# Altium integrated library TI Power Management Power Modules.IntLib: 831 symbols (part 1 of 44)
Pins are listed as number, name and electrical type; pins without a type are passive.

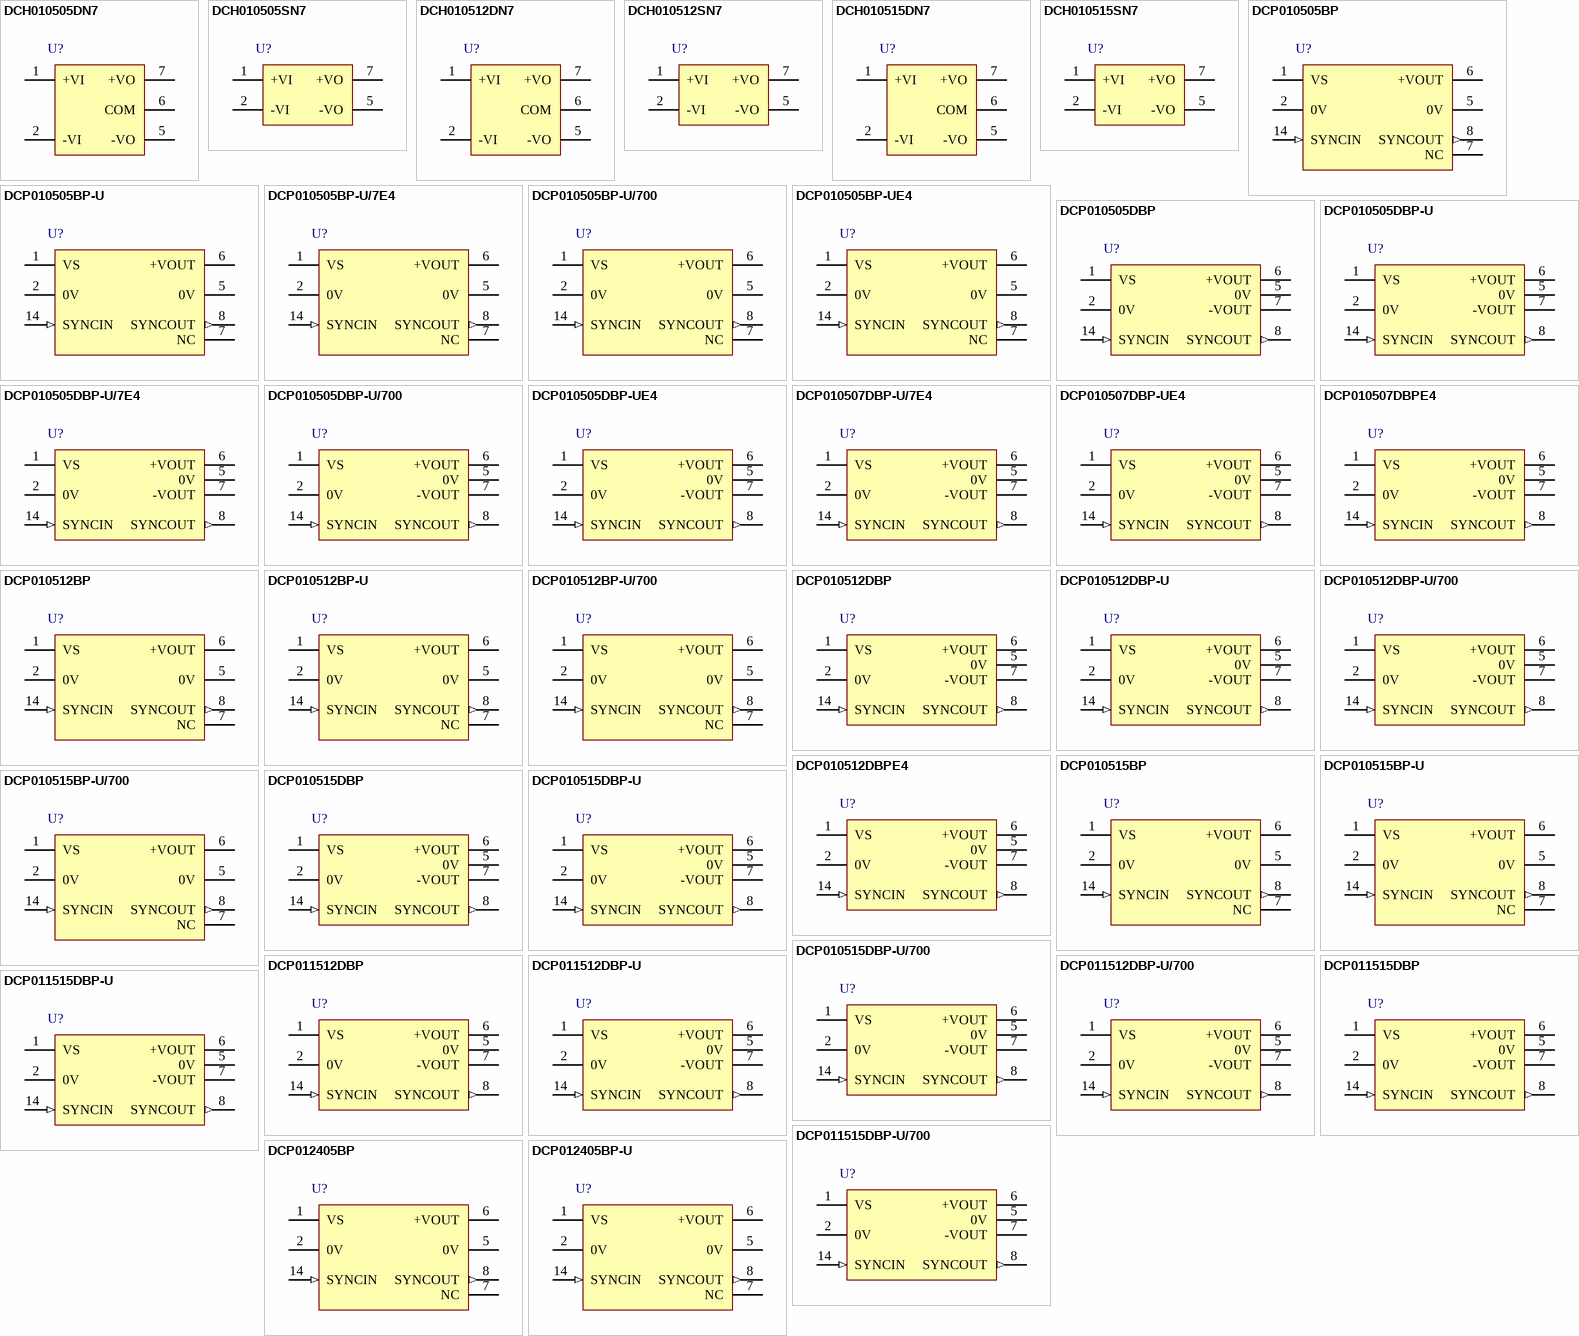
[diagram p0: symbols DCH010505DN7 to DCP012405BP-U]

## DCH010505DN7
designator U?
Miniature, 1 W, 3 kVDC Isolated DC-DC Converter, -40 to 85 degC, 5-pin Module (EDJ5), Pb-Free (RoHS); Manufacturer: Texas Instruments; PartNumber: DCH010505DN7; Iout(Max)(A): 0.1; Regulated Outputs(#): 2; SubFamily: 1 W & 2 W Miniature; Vin(Max)(V): 5.5; Vin(Min)(V): 4.5; DatasheetVersion: SBVS073H; PackageVersion: 4207975-3/C; PackageReference: EDJ5; PackageDescription: 5-Pin Plastic Special Shape, Body 10.15 x 19.56 mm; Supplier 1: Digi-Key; Supplier Part Number 1: 296-20637-ND; Supplier 2: Farnell; Supplier Part Number 2: 1754259; Supplier 3: Newark; Supplier Part Number 3: 02M9394; Supplier 4: Mouser; Supplier Part Number 4: 595-DCH010505DN7; Eco-Plan: Pb-Free (RoHS); Vout(Max)(V): 5.5; Vout(Min)(V): 4.5; Mounting Technology: Through Hole; ComponentLink1Description: Manufacturer URL; ComponentLink1URL: http://www.ti.com/; ComponentLink2Description: Datasheet; ComponentLink2URL: http://www.ti.com/general/docs/lit/getliterature.tsp?genericPartNumber=DCH010505D&fileType=pdf; ComponentLink3Description: Package Specification; ComponentLink3URL: http://www.ti.com/lit/ml/mpds294b/mpds294b.pdf; ComponentLink4Description: URL Link1; ComponentLink4URL: Samples URL:http://www.ti.com/product/tps55010#samples
footprint TI-EDJ5_V (Module, 5-Leads, Body 19.56x7.62mm)
pins: 1 +VI (power) "Voltage input", 2 -VI (power) "Input side common", 5 -VO (power) "-Voltage out", 6 COM (power) "Output side common", 7 +VO (power) "+Voltage out"

## DCH010505SN7
designator U?
Miniature, 1 W, 3 kVDC Isolated DC-DC Converter, -40 to 85 degC, 4-pin Module (EDJ4), Pb-Free (RoHS); Manufacturer: Texas Instruments; PartNumber: DCH010505SN7; Iout(Max)(A): 0.2; Regulated Outputs(#): 1; SubFamily: 1 W & 2 W Miniature; Vin(Max)(V): 5.5; Vin(Min)(V): 4.5; DatasheetVersion: SBVS073H; PackageVersion: 4207975-2/C; PackageReference: EDJ4; PackageDescription: 4-Pin Plastic Special Shape, Body 10.15 x 19.56 mm; Supplier 1: Digi-Key; Supplier Part Number 1: 296-20638-ND; Supplier 2: Farnell; Supplier Part Number 2: 1754260; Supplier 3: Newark; Supplier Part Number 3: 28M9234; Supplier 4: Mouser; Supplier Part Number 4: 595-DCH010505SN7; Eco-Plan: Pb-Free (RoHS); Vout(Max)(V): 5.5; Vout(Min)(V): 4.5; Mounting Technology: Through Hole; ComponentLink1Description: Manufacturer URL; ComponentLink1URL: http://www.ti.com/; ComponentLink2Description: Datasheet; ComponentLink2URL: http://www.ti.com/general/docs/lit/getliterature.tsp?genericPartNumber=DCH010505S&fileType=pdf; ComponentLink3Description: Package Specification; ComponentLink3URL: http://www.ti.com/lit/ml/mpds293b/mpds293b.pdf; ComponentLink4Description: URL Link1; ComponentLink4URL: Samples URL:http://www.ti.com/product/tps55010#samples
footprint TI-EDJ4_V (Module, 4-Leads, Body 19.56x7.62mm)
pins: 1 +VI (power) "Voltage input", 2 -VI (power) "Input side common", 5 -VO (power) "-Voltage out", 7 +VO (power) "+Voltage out"

## DCH010512DN7
designator U?
Miniature, 1 W, 3 kVDC Isolated DC-DC Converter, -40 to 85 degC, 5-pin Module (EDJ5), Pb-Free (RoHS); Manufacturer: Texas Instruments; PartNumber: DCH010512DN7; Iout(Max)(A): 0.042; Regulated Outputs(#): 2; SubFamily: 1 W & 2 W Miniature; Vin(Max)(V): 5.5; Vin(Min)(V): 4.5; Vout(Max)(V): 12.6; Vout(Min)(V): 11.4; DatasheetVersion: SBVS073H; PackageVersion: 4207975-3/C; PackageReference: EDJ5; PackageDescription: 5-Pin Plastic Special Shape, Body 10.15 x 19.56 mm; Supplier 1: Digi-Key; Supplier Part Number 1: 296-20639-ND; Supplier 2: Farnell; Supplier Part Number 2: 1754814; Supplier 3: Newark; Supplier Part Number 3: 34R7446; Supplier 4: Newark; Supplier Part Number 4: 28M9235; Supplier 5: Mouser; Supplier Part Number 5: 595-DCH010512DN7; Eco-Plan: Pb-Free (RoHS); Mounting Technology: Through Hole; ComponentLink1Description: Manufacturer URL; ComponentLink1URL: http://www.ti.com/; ComponentLink2Description: Datasheet; ComponentLink2URL: http://www.ti.com/general/docs/lit/getliterature.tsp?genericPartNumber=DCH010512D&fileType=pdf; ComponentLink3Description: Package Specification; ComponentLink3URL: http://www.ti.com/lit/ml/mpds294b/mpds294b.pdf; ComponentLink4Description: URL Link1; ComponentLink4URL: Samples URL:http://www.ti.com/product/dch010512d
footprint TI-EDJ5_V (Module, 5-Leads, Body 19.56x7.62mm)
pins: 1 +VI (power) "Voltage input", 2 -VI (power) "Input side common", 5 -VO (power) "-Voltage out", 6 COM (power) "Output side common", 7 +VO (power) "+Voltage out"

## DCH010512SN7
designator U?
Miniature, 1 W, 3 kVDC Isolated DC-DC Converter, -40 to 85 degC, 4-pin Module (EDJ4), Pb-Free (RoHS); Manufacturer: Texas Instruments; PartNumber: DCH010512SN7; Iout(Max)(A): 0.083; Regulated Outputs(#): 1; SubFamily: 1 W & 2 W Miniature; Vin(Max)(V): 5.5; Vin(Min)(V): 4.5; Vout(Max)(V): 12.6; Vout(Min)(V): 11.4; DatasheetVersion: SBVS073H; PackageVersion: 4207975-2/C; PackageReference: EDJ4; PackageDescription: 4-Pin Plastic Special Shape, Body 10.15 x 19.56 mm; Supplier 1: Digi-Key; Supplier Part Number 1: 296-20640-ND; Supplier 2: Newark; Supplier Part Number 2: 28M9236; Supplier 3: Mouser; Supplier Part Number 3: 595-DCH010512SN7; Eco-Plan: Pb-Free (RoHS); Mounting Technology: Through Hole; ComponentLink1Description: Manufacturer URL; ComponentLink1URL: http://www.ti.com/; ComponentLink2Description: Datasheet; ComponentLink2URL: http://www.ti.com/general/docs/lit/getliterature.tsp?genericPartNumber=DCH010512S&fileType=pdf; ComponentLink3Description: Package Specification; ComponentLink3URL: http://www.ti.com/lit/ml/mpds293b/mpds293b.pdf; ComponentLink4Description: URL Link1; ComponentLink4URL: Samples URL:http://www.ti.com/product/dch010512s
footprint TI-EDJ4_V (Module, 4-Leads, Body 19.56x7.62mm)
pins: 1 +VI (power) "Voltage input", 2 -VI (power) "Input side common", 5 -VO (power) "-Voltage out", 7 +VO (power) "+Voltage out"

## DCH010515DN7
designator U?
Miniature, 1 W, 3 kVDC Isolated DC-DC Converter, -40 to 85 degC, 5-pin Module (EDJ5), Pb-Free (RoHS); Manufacturer: Texas Instruments; PartNumber: DCH010515DN7; Iout(Max)(A): 0.033; Regulated Outputs(#): 2; SubFamily: 1 W & 2 W Miniature; Vin(Max)(V): 5.5; Vin(Min)(V): 4.5; Vout(Max)(V): 15.75; Vout(Min)(V): 14.25; DatasheetVersion: SBVS073H; PackageVersion: 4207975-3/C; PackageReference: EDJ5; PackageDescription: 5-Pin Plastic Special Shape, Body 10.15 x 19.56 mm; Supplier 1: Digi-Key; Supplier Part Number 1: 296-20641-ND; Supplier 2: Newark; Supplier Part Number 2: 34M5484; Supplier 3: Mouser; Supplier Part Number 3: 595-DCH010515DN7; Eco-Plan: Pb-Free (RoHS); Mounting Technology: Through Hole; ComponentLink1Description: Manufacturer URL; ComponentLink1URL: http://www.ti.com/; ComponentLink2Description: Datasheet; ComponentLink2URL: http://www.ti.com/general/docs/lit/getliterature.tsp?genericPartNumber=DCH010515D&fileType=pdf; ComponentLink3Description: Package Specification; ComponentLink3URL: http://www.ti.com/lit/ml/mpds294b/mpds294b.pdf; ComponentLink4Description: URL Link1; ComponentLink4URL: Samples URL:http://www.ti.com/product/dch010515d
footprint TI-EDJ5_V (Module, 5-Leads, Body 19.56x7.62mm)
pins: 1 +VI (power) "Voltage input", 2 -VI (power) "Input side common", 5 -VO (power) "-Voltage out", 6 COM (power) "Output side common", 7 +VO (power) "+Voltage out"

## DCH010515SN7
designator U?
Miniature, 1 W, 3 kVDC Isolated DC-DC Converter, -40 to 85 degC, 4-pin Module (EDJ4), Pb-Free (RoHS); Manufacturer: Texas Instruments; PartNumber: DCH010515SN7; Iout(Max)(A): 0.067; Regulated Outputs(#): 1; SubFamily: 1 W & 2 W Miniature; Vin(Max)(V): 5.5; Vin(Min)(V): 4.5; Vout(Max)(V): 15.75; Vout(Min)(V): 14.25; DatasheetVersion: SBVS073H; PackageVersion: 4207975-2/C; PackageReference: EDJ4; PackageDescription: 4-Pin Plastic Special Shape, Body 10.15 x 19.56 mm; Supplier 1: Digi-Key; Supplier Part Number 1: 296-20642-ND; Supplier 2: Farnell; Supplier Part Number 2: 1564914; Supplier 3: Newark; Supplier Part Number 3: 02M9399; Supplier 4: Newark; Supplier Part Number 4: 96M9953; Supplier 5: Mouser; Supplier Part Number 5: 595-DCH010515SN7; Eco-Plan: Pb-Free (RoHS); Mounting Technology: Through Hole; ComponentLink1Description: Manufacturer URL; ComponentLink1URL: http://www.ti.com/; ComponentLink2Description: Datasheet; ComponentLink2URL: http://www.ti.com/general/docs/lit/getliterature.tsp?genericPartNumber=DCH010515S&fileType=pdf; ComponentLink3Description: Package Specification; ComponentLink3URL: http://www.ti.com/lit/ml/mpds293b/mpds293b.pdf; ComponentLink4Description: URL Link1; ComponentLink4URL: Samples URL:http://www.ti.com/product/dch010515s
footprint TI-EDJ4_V (Module, 4-Leads, Body 19.56x7.62mm)
pins: 1 +VI (power) "Voltage input", 2 -VI (power) "Input side common", 5 -VO (power) "-Voltage out", 7 +VO (power) "+Voltage out"

## DCP010505BP
designator U?
Miniature, 1 W Isolated Unregulated DC-DC Converter, -40 to 100 degC, 7-pin DIP (NVA7), Pb-Free (RoHS); Manufacturer: Texas Instruments; PartNumber: DCP010505BP; Iout(Max)(A): 0.2; Regulated Outputs(#): 1; SubFamily: 1 W & 2 W Miniature; Vin(Max)(V): 5.5; Vin(Min)(V): 4.5; Vout(Max)(V): 5.25; Vout(Min)(V): 4.75; DatasheetVersion: SBVS012E; PackageVersion: 4202489/B; PackageReference: NVA7; PackageDescription: 7-Pin Plastic In-Line, Body 6.61 x 19.18 mm; Supplier 1: Digi-Key; Supplier Part Number 1: DCP010505BP-ND; Supplier 2: Farnell; Supplier Part Number 2: 1204767; Supplier 3: Newark; Supplier Part Number 3: 74K3717; Supplier 4: Mouser; Supplier Part Number 4: 595-DCP010505BP; Eco-Plan: Pb-Free (RoHS); Mounting Technology: Through Hole; Code_JEDEC: MS-001-AA; ComponentLink1Description: Manufacturer URL; ComponentLink1URL: http://www.ti.com/; ComponentLink2Description: Datasheet; ComponentLink2URL: http://www.ti.com/general/docs/lit/getliterature.tsp?genericPartNumber=DCP010505B&fileType=pdf; ComponentLink3Description: Package Specification; ComponentLink3URL: http://www.ti.com/lit/ml/mpdi058a/mpdi058a.pdf; ComponentLink4Description: URL Link1; ComponentLink4URL: Samples URL:http://www.ti.com/product/dcp010505b#samples
footprint TI-NVA7 (DIP, 7-Leads, Body 19.18x6.605mm, Pitch 2.54mm)
pins: 1 VS (power) "Voltage input", 2 0V (power) "Input side common", 5 0V (power) "Output side common", 6 +VOUT (power) "+Voltage Out", 7 NC "Not connected", 8 SYNCOUT (out) "Unrectified transformer output", 14 SYNCIN (in) "Synchronization pin"

## DCP010505BP-U
designator U?
Miniature, 1 W Isolated Unregulated DC-DC Converter, -40 to 100 degC, 7-pin SOP (DUA7), Pb-Free (RoHS); Manufacturer: Texas Instruments; PartNumber: DCP010505BP-U; Iout(Max)(A): 0.2; Regulated Outputs(#): 1; SubFamily: 1 W & 2 W Miniature; Vin(Max)(V): 5.5; Vin(Min)(V): 4.5; Vout(Max)(V): 5.25; Vout(Min)(V): 4.75; DatasheetVersion: SBVS012E; PackageVersion: 4202490/B; PackageReference: DUA7; PackageDescription: 7-Pin Plastic Small Outline, Body 6.61 x 19.18 mm; Supplier 1: Digi-Key; Supplier Part Number 1: DCP010505BP-U-ND; Supplier 2: Newark; Supplier Part Number 2: 35C1673; Supplier 3: Mouser; Supplier Part Number 3: 595-DCP010505BP-U; Eco-Plan: Pb-Free (RoHS); Mounting Technology: Surface Mount; ComponentLink1Description: Manufacturer URL; ComponentLink1URL: http://www.ti.com/; ComponentLink2Description: Datasheet; ComponentLink2URL: http://www.ti.com/general/docs/lit/getliterature.tsp?genericPartNumber=DCP010505B&fileType=pdf; ComponentLink3Description: Package Specification; ComponentLink3URL: http://www.ti.com/lit/ml/mpds097a/mpds097a.pdf; ComponentLink4Description: URL Link1; ComponentLink4URL: Samples URL:http://www.ti.com/product/dcp010505b#samples
footprint TI-DUA7_N (SOP, 7-Leads, Body 19.18x6.605mm, Pitch 2.54mm, IPC Medium Density)
footprint TI-DUA7_L (SOP, 7-Leads, Body 19.18x6.605mm, Pitch 2.54mm, IPC High Density)
footprint TI-DUA7_M (SOP, 7-Leads, Body 19.18x6.605mm, Pitch 2.54mm, IPC Low Density)
pins: 1 VS (power) "Voltage input", 2 0V (power) "Input side common", 5 0V (power) "Output side common", 6 +VOUT (power) "+Voltage Out", 7 NC "Not connected", 8 SYNCOUT (out) "Unrectified transformer output", 14 SYNCIN (in) "Synchronization pin"

## DCP010505BP-U/7E4
designator U?
Miniature, 1 W Isolated Unregulated DC-DC Converter, -40 to 100 degC, 7-pin SOP (DUA7), Pb-Free (RoHS); Manufacturer: Texas Instruments; PartNumber: DCP010505BP-U/7E4; Iout(Max)(A): 0.2; Regulated Outputs(#): 1; SubFamily: 1 W & 2 W Miniature; Vin(Max)(V): 5.5; Vin(Min)(V): 4.5; Vout(Max)(V): 5.25; Vout(Min)(V): 4.75; DatasheetVersion: SBVS012E; PackageVersion: 4202490/B; PackageReference: DUA7; PackageDescription: 7-Pin Plastic Small Outline, Body 6.61 x 19.18 mm; Supplier 1: Digi-Key; Supplier Part Number 1: DCP010505BP-U/7E4-ND; Supplier 2: Newark; Supplier Part Number 2: 71K2885; Supplier 3: Mouser; Supplier Part Number 3: 595-DCP010505BPU/7E4; Eco-Plan: Pb-Free (RoHS); Mounting Technology: Surface Mount; ComponentLink1Description: Manufacturer URL; ComponentLink1URL: http://www.ti.com/; ComponentLink2Description: Datasheet; ComponentLink2URL: http://www.ti.com/general/docs/lit/getliterature.tsp?genericPartNumber=DCP010505B&fileType=pdf; ComponentLink3Description: Package Specification; ComponentLink3URL: http://www.ti.com/lit/ml/mpds097a/mpds097a.pdf; ComponentLink4Description: URL Link1; ComponentLink4URL: Samples URL:http://www.ti.com/product/dcp010505b#samples
footprint TI-DUA7_N (SOP, 7-Leads, Body 19.18x6.605mm, Pitch 2.54mm, IPC Medium Density)
footprint TI-DUA7_L (SOP, 7-Leads, Body 19.18x6.605mm, Pitch 2.54mm, IPC High Density)
footprint TI-DUA7_M (SOP, 7-Leads, Body 19.18x6.605mm, Pitch 2.54mm, IPC Low Density)
pins: 1 VS (power) "Voltage input", 2 0V (power) "Input side common", 5 0V (power) "Output side common", 6 +VOUT (power) "+Voltage Out", 7 NC "Not connected", 8 SYNCOUT (out) "Unrectified transformer output", 14 SYNCIN (in) "Synchronization pin"

## DCP010505BP-U/700
designator U?
Miniature, 1 W Isolated Unregulated DC-DC Converter, -40 to 100 degC, 7-pin SOP (DUA7), Pb-Free (RoHS); Manufacturer: Texas Instruments; PartNumber: DCP010505BP-U/700; Iout(Max)(A): 0.2; Regulated Outputs(#): 1; SubFamily: 1 W & 2 W Miniature; Vin(Max)(V): 5.5; Vin(Min)(V): 4.5; Vout(Max)(V): 5.25; Vout(Min)(V): 4.75; DatasheetVersion: SBVS012E; PackageVersion: 4202490/B; PackageReference: DUA7; PackageDescription: 7-Pin Plastic Small Outline, Body 6.61 x 19.18 mm; Supplier 1: Digi-Key; Supplier Part Number 1: DCP010505BP-U/700-ND; Supplier 2: Newark; Supplier Part Number 2: 74C9320; Supplier 3: Mouser; Supplier Part Number 3: 595-DCP010505BPU/700; Eco-Plan: Pb-Free (RoHS); Mounting Technology: Surface Mount; ComponentLink1Description: Manufacturer URL; ComponentLink1URL: http://www.ti.com/; ComponentLink2Description: Datasheet; ComponentLink2URL: http://www.ti.com/general/docs/lit/getliterature.tsp?genericPartNumber=DCP010505B&fileType=pdf; ComponentLink3Description: Package Specification; ComponentLink3URL: http://www.ti.com/lit/ml/mpds097a/mpds097a.pdf; ComponentLink4Description: URL Link1; ComponentLink4URL: Samples URL:http://www.ti.com/product/dcp010505b#samples
footprint TI-DUA7_N (SOP, 7-Leads, Body 19.18x6.605mm, Pitch 2.54mm, IPC Medium Density)
footprint TI-DUA7_L (SOP, 7-Leads, Body 19.18x6.605mm, Pitch 2.54mm, IPC High Density)
footprint TI-DUA7_M (SOP, 7-Leads, Body 19.18x6.605mm, Pitch 2.54mm, IPC Low Density)
pins: 1 VS (power) "Voltage input", 2 0V (power) "Input side common", 5 0V (power) "Output side common", 6 +VOUT (power) "+Voltage Out", 7 NC "Not connected", 8 SYNCOUT (out) "Unrectified transformer output", 14 SYNCIN (in) "Synchronization pin"

## DCP010505BP-UE4
designator U?
Miniature, 1 W Isolated Unregulated DC-DC Converter, -40 to 100 degC, 7-pin SOP (DUA7), Pb-Free (RoHS); Manufacturer: Texas Instruments; PartNumber: DCP010505BP-UE4; Iout(Max)(A): 0.2; Regulated Outputs(#): 1; SubFamily: 1 W & 2 W Miniature; Vin(Max)(V): 5.5; Vin(Min)(V): 4.5; Vout(Max)(V): 5.25; Vout(Min)(V): 4.75; DatasheetVersion: SBVS012E; PackageVersion: 4202490/B; PackageReference: DUA7; PackageDescription: 7-Pin Plastic Small Outline, Body 6.61 x 19.18 mm; Supplier 1: Digi-Key; Supplier Part Number 1: DCP010505BP-UE4-ND; Supplier 2: Newark; Supplier Part Number 2: 58K5664; Supplier 3: Mouser; Supplier Part Number 3: 595-DCP010505BP-UE4; Eco-Plan: Pb-Free (RoHS); Mounting Technology: Surface Mount; ComponentLink1Description: Manufacturer URL; ComponentLink1URL: http://www.ti.com/; ComponentLink2Description: Datasheet; ComponentLink2URL: http://www.ti.com/general/docs/lit/getliterature.tsp?genericPartNumber=DCP010505B&fileType=pdf; ComponentLink3Description: Package Specification; ComponentLink3URL: http://www.ti.com/lit/ml/mpds097a/mpds097a.pdf; ComponentLink4Description: URL Link1; ComponentLink4URL: Samples URL:http://www.ti.com/product/tps55010#samples
footprint TI-DUA7_N (SOP, 7-Leads, Body 19.18x6.605mm, Pitch 2.54mm, IPC Medium Density)
footprint TI-DUA7_L (SOP, 7-Leads, Body 19.18x6.605mm, Pitch 2.54mm, IPC High Density)
footprint TI-DUA7_M (SOP, 7-Leads, Body 19.18x6.605mm, Pitch 2.54mm, IPC Low Density)
pins: 1 VS (power) "Voltage input", 2 0V (power) "Input side common", 5 0V (power) "Output side common", 6 +VOUT (power) "+Voltage Out", 7 NC "Not connected", 8 SYNCOUT (out) "Unrectified transformer output", 14 SYNCIN (in) "Synchronization pin"

## DCP010505DBP
designator U?
Miniature, 1 W Isolated Unregulated DC-DC Converter, -40 to 100 degC, 7-pin DIP (NVA7), Pb-Free (RoHS); Manufacturer: Texas Instruments; PartNumber: DCP010505DBP; Iout(Max)(A): 0.1; Regulated Outputs(#): 2; SubFamily: 1 W & 2 W Miniature; Vin(Max)(V): 5.5; Vin(Min)(V): 4.5; Vout(Max)(V): 5.75; Vout(Min)(V): 4.25; DatasheetVersion: SBVS012E; PackageVersion: 4202489/B; PackageReference: NVA7; PackageDescription: 7-Pin Plastic In-Line, Body 6.61 x 19.18 mm; Supplier 1: Digi-Key; Supplier Part Number 1: DCP010505DBP-ND; Supplier 2: Farnell; Supplier Part Number 2: 1206889; Supplier 3: Newark; Supplier Part Number 3: 74K3718; Supplier 4: Mouser; Supplier Part Number 4: 595-DCP010505DBP; Eco-Plan: Pb-Free (RoHS); Mounting Technology: Through Hole; Code_JEDEC: MS-001-AA; ComponentLink1Description: Manufacturer URL; ComponentLink1URL: http://www.ti.com/; ComponentLink2Description: Datasheet; ComponentLink2URL: http://www.ti.com/general/docs/lit/getliterature.tsp?genericPartNumber=DCP010505DB&fileType=pdf; ComponentLink3Description: Package Specification; ComponentLink3URL: http://www.ti.com/lit/ml/mpdi058a/mpdi058a.pdf; ComponentLink4Description: URL Link1; ComponentLink4URL: Samples URL:http://www.ti.com/product/dcp010505db#samples
footprint TI-NVA7 (DIP, 7-Leads, Body 19.18x6.605mm, Pitch 2.54mm)
pins: 1 VS (power) "Voltage input", 2 0V (power) "Input side common", 5 0V (power) "Output side common", 6 +VOUT (power) "+Voltage out", 7 -VOUT (power) "-Voltage out", 8 SYNCOUT (out) "Unrectified transformer output", 14 SYNCIN (in) "Synchronization pin"

## DCP010505DBP-U
designator U?
Miniature, 1 W Isolated Unregulated DC-DC Converter, -40 to 100 degC, 7-pin SOP (DUA7), Pb-Free (RoHS); Manufacturer: Texas Instruments; PartNumber: DCP010505DBP-U; Iout(Max)(A): 0.1; Regulated Outputs(#): 2; SubFamily: 1 W & 2 W Miniature; Vin(Max)(V): 5.5; Vin(Min)(V): 4.5; Vout(Max)(V): 5.75; Vout(Min)(V): 4.25; DatasheetVersion: SBVS012E; PackageVersion: 4202490/B; PackageReference: DUA7; PackageDescription: 7-Pin Plastic Small Outline, Body 6.61 x 19.18 mm; Supplier 1: Digi-Key; Supplier Part Number 1: DCP010505DBP-U-ND; Supplier 2: Newark; Supplier Part Number 2: 74C9321; Supplier 3: Mouser; Supplier Part Number 3: 595-DCP010505DBP-U; Eco-Plan: Pb-Free (RoHS); Mounting Technology: Surface Mount; ComponentLink1Description: Manufacturer URL; ComponentLink1URL: http://www.ti.com/; ComponentLink2Description: Datasheet; ComponentLink2URL: http://www.ti.com/general/docs/lit/getliterature.tsp?genericPartNumber=DCP010505DB&fileType=pdf; ComponentLink3Description: Package Specification; ComponentLink3URL: http://www.ti.com/lit/ml/mpds097a/mpds097a.pdf; ComponentLink4Description: URL Link1; ComponentLink4URL: Samples URL:http://www.ti.com/product/dcp010505db#samples
footprint TI-DUA7_N (SOP, 7-Leads, Body 19.18x6.605mm, Pitch 2.54mm, IPC Medium Density)
footprint TI-DUA7_L (SOP, 7-Leads, Body 19.18x6.605mm, Pitch 2.54mm, IPC High Density)
footprint TI-DUA7_M (SOP, 7-Leads, Body 19.18x6.605mm, Pitch 2.54mm, IPC Low Density)
pins: 1 VS (power) "Voltage input", 2 0V (power) "Input side common", 5 0V (power) "Output side common", 6 +VOUT (power) "+Voltage out", 7 -VOUT (power) "-Voltage out", 8 SYNCOUT (out) "Unrectified transformer output", 14 SYNCIN (in) "Synchronization pin"

## DCP010505DBP-U/7E4
designator U?
Miniature, 1 W Isolated Unregulated DC-DC Converter, -40 to 100 degC, 7-pin SOP (DUA7), Pb-Free (RoHS); Manufacturer: Texas Instruments; PartNumber: DCP010505DBP-U/7E4; Iout(Max)(A): 0.1; Regulated Outputs(#): 2; SubFamily: 1 W & 2 W Miniature; Vin(Max)(V): 5.5; Vin(Min)(V): 4.5; Vout(Max)(V): 5.75; Vout(Min)(V): 4.25; DatasheetVersion: SBVS012E; PackageVersion: 4202490/B; PackageReference: DUA7; PackageDescription: 7-Pin Plastic Small Outline, Body 6.61 x 19.18 mm; Supplier 1: Digi-Key; Supplier Part Number 1: DCP010505DBP-U/7E4-ND; Supplier 2: Newark; Supplier Part Number 2: 73K7727; Supplier 3: Mouser; Supplier Part Number 3: 595-DCP010505DBU/7E4; Eco-Plan: Pb-Free (RoHS); Mounting Technology: Surface Mount; ComponentLink1Description: Manufacturer URL; ComponentLink1URL: http://www.ti.com/; ComponentLink2Description: Datasheet; ComponentLink2URL: http://www.ti.com/general/docs/lit/getliterature.tsp?genericPartNumber=DCP010505DB&fileType=pdf; ComponentLink3Description: Package Specification; ComponentLink3URL: http://www.ti.com/lit/ml/mpds097a/mpds097a.pdf; ComponentLink4Description: URL Link1; ComponentLink4URL: Samples URL:http://www.ti.com/product/dcp010505db#samples
footprint TI-DUA7_N (SOP, 7-Leads, Body 19.18x6.605mm, Pitch 2.54mm, IPC Medium Density)
footprint TI-DUA7_L (SOP, 7-Leads, Body 19.18x6.605mm, Pitch 2.54mm, IPC High Density)
footprint TI-DUA7_M (SOP, 7-Leads, Body 19.18x6.605mm, Pitch 2.54mm, IPC Low Density)
pins: 1 VS (power) "Voltage input", 2 0V (power) "Input side common", 5 0V (power) "Output side common", 6 +VOUT (power) "+Voltage out", 7 -VOUT (power) "-Voltage out", 8 SYNCOUT (out) "Unrectified transformer output", 14 SYNCIN (in) "Synchronization pin"

## DCP010505DBP-U/700
designator U?
Miniature, 1 W Isolated Unregulated DC-DC Converter, -40 to 100 degC, 7-pin SOP (DUA7), Pb-Free (RoHS); Manufacturer: Texas Instruments; PartNumber: DCP010505DBP-U/700; Iout(Max)(A): 0.1; Regulated Outputs(#): 2; SubFamily: 1 W & 2 W Miniature; Vin(Max)(V): 5.5; Vin(Min)(V): 4.5; Vout(Max)(V): 5.75; Vout(Min)(V): 4.25; DatasheetVersion: SBVS012E; PackageVersion: 4202490/B; PackageReference: DUA7; PackageDescription: 7-Pin Plastic Small Outline, Body 6.61 x 19.18 mm; Supplier 1: Digi-Key; Supplier Part Number 1: DCP010505DBP-U700-ND; Supplier 2: Newark; Supplier Part Number 2: 74C9322; Supplier 3: Mouser; Supplier Part Number 3: 595-DCP010505DBU/700; Eco-Plan: Pb-Free (RoHS); Mounting Technology: Surface Mount; ComponentLink1Description: Manufacturer URL; ComponentLink1URL: http://www.ti.com/; ComponentLink2Description: Datasheet; ComponentLink2URL: http://www.ti.com/general/docs/lit/getliterature.tsp?genericPartNumber=DCP010505DB&fileType=pdf; ComponentLink3Description: Package Specification; ComponentLink3URL: http://www.ti.com/lit/ml/mpds097a/mpds097a.pdf; ComponentLink4Description: URL Link1; ComponentLink4URL: Samples URL:http://www.ti.com/product/dcp010505db#samples
footprint TI-DUA7_N (SOP, 7-Leads, Body 19.18x6.605mm, Pitch 2.54mm, IPC Medium Density)
footprint TI-DUA7_L (SOP, 7-Leads, Body 19.18x6.605mm, Pitch 2.54mm, IPC High Density)
footprint TI-DUA7_M (SOP, 7-Leads, Body 19.18x6.605mm, Pitch 2.54mm, IPC Low Density)
pins: 1 VS (power) "Voltage input", 2 0V (power) "Input side common", 5 0V (power) "Output side common", 6 +VOUT (power) "+Voltage out", 7 -VOUT (power) "-Voltage out", 8 SYNCOUT (out) "Unrectified transformer output", 14 SYNCIN (in) "Synchronization pin"

## DCP010505DBP-UE4
designator U?
Miniature, 1 W Isolated Unregulated DC-DC Converter, -40 to 100 degC, 7-pin SOP (DUA7), Pb-Free (RoHS); Manufacturer: Texas Instruments; PartNumber: DCP010505DBP-UE4; Iout(Max)(A): 0.1; Regulated Outputs(#): 2; SubFamily: 1 W & 2 W Miniature; Vin(Max)(V): 5.5; Vin(Min)(V): 4.5; Vout(Max)(V): 5.75; Vout(Min)(V): 4.25; DatasheetVersion: SBVS012E; PackageVersion: 4202490/B; PackageReference: DUA7; PackageDescription: 7-Pin Plastic Small Outline, Body 6.61 x 19.18 mm; Supplier 1: Digi-Key; Supplier Part Number 1: DCP010505DBP-UE4-ND; Supplier 2: Newark; Supplier Part Number 2: 73K7728; Supplier 3: Mouser; Supplier Part Number 3: 595-DCP010505DBP-UE4; Eco-Plan: Pb-Free (RoHS); Mounting Technology: Surface Mount; ComponentLink1Description: Manufacturer URL; ComponentLink1URL: http://www.ti.com/; ComponentLink2Description: Datasheet; ComponentLink2URL: http://www.ti.com/general/docs/lit/getliterature.tsp?genericPartNumber=DCP010505DB&fileType=pdf; ComponentLink3Description: Package Specification; ComponentLink3URL: http://www.ti.com/lit/ml/mpds097a/mpds097a.pdf; ComponentLink4Description: URL Link1; ComponentLink4URL: Samples URL:http://www.ti.com/product/tps55010#samples
footprint TI-DUA7_N (SOP, 7-Leads, Body 19.18x6.605mm, Pitch 2.54mm, IPC Medium Density)
footprint TI-DUA7_L (SOP, 7-Leads, Body 19.18x6.605mm, Pitch 2.54mm, IPC High Density)
footprint TI-DUA7_M (SOP, 7-Leads, Body 19.18x6.605mm, Pitch 2.54mm, IPC Low Density)
pins: 1 VS (power) "Voltage input", 2 0V (power) "Input side common", 5 0V (power) "Output side common", 6 +VOUT (power) "+Voltage out", 7 -VOUT (power) "-Voltage out", 8 SYNCOUT (out) "Unrectified transformer output", 14 SYNCIN (in) "Synchronization pin"

## DCP010507DBP-U/7E4
designator U?
Miniature, 1 W, Isolated, Unregulated DC-DC Converter, -40 to 100 degC, 7-pin SOP (DUA7), Pb-Free (RoHS); Manufacturer: Texas Instruments; PartNumber: DCP010507DBP-U/7E4; Iout(Max)(A): 0.07; Regulated Outputs(#): 2; SubFamily: 1 W & 2 W Miniature; Vin(Max)(V): 5.5; Vin(Min)(V): 4.5; Vout(Max)(V): 7.6; Vout(Min)(V): 6.4; DatasheetVersion: SBVS012E; PackageVersion: 4202490/B; PackageReference: DUA7; PackageDescription: 7-Pin Plastic Small Outline, Body 6.61 x 19.18 mm; Supplier 1: Digi-Key; Supplier Part Number 1: DCP010507DBP-U/7E4-ND; Supplier 2: Mouser; Supplier Part Number 2: 595-DCP010507DBU/7E4; Eco-Plan: Pb-Free (RoHS); Mounting Technology: Surface Mount; ComponentLink1Description: Manufacturer URL; ComponentLink1URL: http://www.ti.com/; ComponentLink2Description: Datasheet; ComponentLink2URL: http://www.ti.com/general/docs/lit/getliterature.tsp?genericPartNumber=DCP010507DB&fileType=pdf; ComponentLink3Description: Package Specification; ComponentLink3URL: http://www.ti.com/lit/ml/mpds097a/mpds097a.pdf; ComponentLink4Description: URL Link1; ComponentLink4URL: Samples URL:http://www.ti.com/product/dcp010507db#samples
footprint TI-DUA7_N (SOP, 7-Leads, Body 19.18x6.605mm, Pitch 2.54mm, IPC Medium Density)
footprint TI-DUA7_L (SOP, 7-Leads, Body 19.18x6.605mm, Pitch 2.54mm, IPC High Density)
footprint TI-DUA7_M (SOP, 7-Leads, Body 19.18x6.605mm, Pitch 2.54mm, IPC Low Density)
pins: 1 VS (power) "Voltage input", 2 0V (power) "Input side common", 5 0V (power) "Output side common", 6 +VOUT (power) "+Voltage out", 7 -VOUT (power) "-Voltage out", 8 SYNCOUT (out) "Unrectified transformer output", 14 SYNCIN (in) "Synchronization pin"

## DCP010507DBP-UE4
designator U?
Miniature, 1 W, Isolated, Unregulated DC-DC Converter, -40 to 100 degC, 7-pin SOP (DUA7), Pb-Free (RoHS); Manufacturer: Texas Instruments; PartNumber: DCP010507DBP-UE4; Iout(Max)(A): 0.07; Regulated Outputs(#): 2; SubFamily: 1 W & 2 W Miniature; Vin(Max)(V): 5.5; Vin(Min)(V): 4.5; Vout(Max)(V): 7.6; Vout(Min)(V): 6.4; DatasheetVersion: SBVS012E; PackageVersion: 4202490/B; PackageReference: DUA7; PackageDescription: 7-Pin Plastic Small Outline, Body 6.61 x 19.18 mm; Supplier 1: Digi-Key; Supplier Part Number 1: 296-18686-5-ND; Supplier 2: Newark; Supplier Part Number 2: 60K9182; Supplier 3: Mouser; Supplier Part Number 3: 595-DCP010507DBP-UE4; Eco-Plan: Pb-Free (RoHS); Mounting Technology: Surface Mount; ComponentLink1Description: Manufacturer URL; ComponentLink1URL: http://www.ti.com/; ComponentLink2Description: Datasheet; ComponentLink2URL: http://www.ti.com/general/docs/lit/getliterature.tsp?genericPartNumber=DCP010507DB&fileType=pdf; ComponentLink3Description: Package Specification; ComponentLink3URL: http://www.ti.com/lit/ml/mpds097a/mpds097a.pdf; ComponentLink4Description: URL Link1; ComponentLink4URL: Samples URL:http://www.ti.com/product/dcp010507db#samples
footprint TI-DUA7_N (SOP, 7-Leads, Body 19.18x6.605mm, Pitch 2.54mm, IPC Medium Density)
footprint TI-DUA7_L (SOP, 7-Leads, Body 19.18x6.605mm, Pitch 2.54mm, IPC High Density)
footprint TI-DUA7_M (SOP, 7-Leads, Body 19.18x6.605mm, Pitch 2.54mm, IPC Low Density)
pins: 1 VS (power) "Voltage input", 2 0V (power) "Input side common", 5 0V (power) "Output side common", 6 +VOUT (power) "+Voltage out", 7 -VOUT (power) "-Voltage out", 8 SYNCOUT (out) "Unrectified transformer output", 14 SYNCIN (in) "Synchronization pin"

## DCP010507DBPE4
designator U?
Miniature, 1 W, Isolated, Unregulated DC-DC Converter, -40 to 100 degC, 7-pin DIP (NVA7), Pb-Free (RoHS); Manufacturer: Texas Instruments; PartNumber: DCP010507DBPE4; Iout(Max)(A): 0.07; Regulated Outputs(#): 2; SubFamily: 1 W & 2 W Miniature; Vin(Max)(V): 5.5; Vin(Min)(V): 4.5; Vout(Max)(V): 7.6; Vout(Min)(V): 6.4; DatasheetVersion: SBVS012E; PackageVersion: 4202489/B; PackageReference: NVA7; PackageDescription: 7-Pin Plastic In-Line, Body 6.61 x 19.18 mm; Supplier 1: Digi-Key; Supplier Part Number 1: 296-18687-5-ND; Supplier 2: Newark; Supplier Part Number 2: 60K9183; Supplier 3: Mouser; Supplier Part Number 3: 595-DCP010507DBPE4; Eco-Plan: Pb-Free (RoHS); Mounting Technology: Through Hole; Code_JEDEC: MS-001-AA; ComponentLink1Description: Manufacturer URL; ComponentLink1URL: http://www.ti.com/; ComponentLink2Description: Datasheet; ComponentLink2URL: http://www.ti.com/general/docs/lit/getliterature.tsp?genericPartNumber=DCP010507DB&fileType=pdf; ComponentLink3Description: Package Specification; ComponentLink3URL: http://www.ti.com/lit/ml/mpdi058a/mpdi058a.pdf; ComponentLink4Description: URL Link1; ComponentLink4URL: Samples URL:http://www.ti.com/product/tps55010#samples
footprint TI-NVA7 (DIP, 7-Leads, Body 19.18x6.605mm, Pitch 2.54mm)
pins: 1 VS (power) "Voltage input", 2 0V (power) "Input side common", 5 0V (power) "Output side common", 6 +VOUT (power) "+Voltage out", 7 -VOUT (power) "-Voltage out", 8 SYNCOUT (out) "Unrectified transformer output", 14 SYNCIN (in) "Synchronization pin"

## DCP010512BP
designator U?
Miniature, 1 W Isolated Unregulated DC-DC Converter, -40 to 100 degC, 7-pin DIP (NVA7), Pb-Free (RoHS); Manufacturer: Texas Instruments; PartNumber: DCP010512BP; Iout(Max)(A): 0.083; Regulated Outputs(#): 1; SubFamily: 1 W & 2 W Miniature; Vin(Max)(V): 5.5; Vin(Min)(V): 4.5; Vout(Max)(V): 12.6; Vout(Min)(V): 11.4; DatasheetVersion: SBVS012E; PackageVersion: 4202489/B; PackageReference: NVA7; PackageDescription: 7-Pin Plastic In-Line, Body 6.61 x 19.18 mm; Supplier 1: Digi-Key; Supplier Part Number 1: DCP010512BP-ND; Supplier 2: Farnell; Supplier Part Number 2: 1214388; Supplier 3: Newark; Supplier Part Number 3: 25M8902; Supplier 4: Newark; Supplier Part Number 4: 84K1267; Supplier 5: Mouser; Supplier Part Number 5: 595-DCP010512BP; Eco-Plan: Pb-Free (RoHS); Mounting Technology: Through Hole; Code_JEDEC: MS-001-AA; ComponentLink1Description: Manufacturer URL; ComponentLink1URL: http://www.ti.com/; ComponentLink2Description: Datasheet; ComponentLink2URL: http://www.ti.com/general/docs/lit/getliterature.tsp?genericPartNumber=DCP010512B&fileType=pdf; ComponentLink3Description: Package Specification; ComponentLink3URL: http://www.ti.com/lit/ml/mpdi058a/mpdi058a.pdf; ComponentLink4Description: URL Link1; ComponentLink4URL: Samples URL:http://www.ti.com/product/dcp010512b#samples
footprint TI-NVA7 (DIP, 7-Leads, Body 19.18x6.605mm, Pitch 2.54mm)
pins: 1 VS (power) "Voltage input", 2 0V (power) "Input side common", 5 0V (power) "Output side common", 6 +VOUT (power) "+Voltage Out", 7 NC "Not connected", 8 SYNCOUT (out) "Unrectified transformer output", 14 SYNCIN (in) "Synchronization pin"

## DCP010512BP-U
designator U?
Miniature, 1 W Isolated Unregulated DC-DC Converter, -40 to 100 degC, 7-pin SOP (DUA7), Pb-Free (RoHS); Manufacturer: Texas Instruments; PartNumber: DCP010512BP-U; Iout(Max)(A): 0.083; Regulated Outputs(#): 1; SubFamily: 1 W & 2 W Miniature; Vin(Max)(V): 5.5; Vin(Min)(V): 4.5; Vout(Max)(V): 12.6; Vout(Min)(V): 11.4; DatasheetVersion: SBVS012E; PackageVersion: 4202490/B; PackageReference: DUA7; PackageDescription: 7-Pin Plastic Small Outline, Body 6.61 x 19.18 mm; Supplier 1: Digi-Key; Supplier Part Number 1: DCP010512BP-U-ND; Supplier 2: Farnell; Supplier Part Number 2: 1461015; Supplier 3: Newark; Supplier Part Number 3: 61M5777; Supplier 4: Newark; Supplier Part Number 4: 74K3719; Supplier 5: Mouser; Supplier Part Number 5: 595-DCP010512BP-U; Eco-Plan: Pb-Free (RoHS); Mounting Technology: Surface Mount; ComponentLink1Description: Manufacturer URL; ComponentLink1URL: http://www.ti.com/; ComponentLink2Description: Datasheet; ComponentLink2URL: http://www.ti.com/general/docs/lit/getliterature.tsp?genericPartNumber=DCP010512B&fileType=pdf; ComponentLink3Description: Package Specification; ComponentLink3URL: http://www.ti.com/lit/ml/mpds097a/mpds097a.pdf; ComponentLink4Description: URL Link1; ComponentLink4URL: Samples URL:http://www.ti.com/product/dcp010512b#samples
footprint TI-DUA7_N (SOP, 7-Leads, Body 19.18x6.605mm, Pitch 2.54mm, IPC Medium Density)
footprint TI-DUA7_L (SOP, 7-Leads, Body 19.18x6.605mm, Pitch 2.54mm, IPC High Density)
footprint TI-DUA7_M (SOP, 7-Leads, Body 19.18x6.605mm, Pitch 2.54mm, IPC Low Density)
pins: 1 VS (power) "Voltage input", 2 0V (power) "Input side common", 5 0V (power) "Output side common", 6 +VOUT (power) "+Voltage Out", 7 NC "Not connected", 8 SYNCOUT (out) "Unrectified transformer output", 14 SYNCIN (in) "Synchronization pin"

## DCP010512BP-U/700
designator U?
Miniature, 1 W Isolated Unregulated DC-DC Converter, -40 to 100 degC, 7-pin SOP (DUA7), Pb-Free (RoHS); Manufacturer: Texas Instruments; PartNumber: DCP010512BP-U/700; Iout(Max)(A): 0.083; Regulated Outputs(#): 1; SubFamily: 1 W & 2 W Miniature; Vin(Max)(V): 5.5; Vin(Min)(V): 4.5; Vout(Max)(V): 12.6; Vout(Min)(V): 11.4; DatasheetVersion: SBVS012E; PackageVersion: 4202490/B; PackageReference: DUA7; PackageDescription: 7-Pin Plastic Small Outline, Body 6.61 x 19.18 mm; Supplier 1: Digi-Key; Supplier Part Number 1: DCP010512BP-U/700-ND; Supplier 2: Newark; Supplier Part Number 2: 74C9324; Supplier 3: Mouser; Supplier Part Number 3: 595-DCP010512BPU/700; Eco-Plan: Pb-Free (RoHS); Mounting Technology: Surface Mount; ComponentLink1Description: Manufacturer URL; ComponentLink1URL: http://www.ti.com/; ComponentLink2Description: Datasheet; ComponentLink2URL: http://www.ti.com/general/docs/lit/getliterature.tsp?genericPartNumber=DCP010512B&fileType=pdf; ComponentLink3Description: Package Specification; ComponentLink3URL: http://www.ti.com/lit/ml/mpds097a/mpds097a.pdf; ComponentLink4Description: URL Link1; ComponentLink4URL: Samples URL:http://www.ti.com/product/tps55010#samples
footprint TI-DUA7_N (SOP, 7-Leads, Body 19.18x6.605mm, Pitch 2.54mm, IPC Medium Density)
footprint TI-DUA7_L (SOP, 7-Leads, Body 19.18x6.605mm, Pitch 2.54mm, IPC High Density)
footprint TI-DUA7_M (SOP, 7-Leads, Body 19.18x6.605mm, Pitch 2.54mm, IPC Low Density)
pins: 1 VS (power) "Voltage input", 2 0V (power) "Input side common", 5 0V (power) "Output side common", 6 +VOUT (power) "+Voltage Out", 7 NC "Not connected", 8 SYNCOUT (out) "Unrectified transformer output", 14 SYNCIN (in) "Synchronization pin"

## DCP010512DBP
designator U?
Miniature, 1 W Isolated Unregulated DC-DC Converter, -40 to 100 degC, 7-pin DIP (NVA7), Pb-Free (RoHS); Manufacturer: Texas Instruments; PartNumber: DCP010512DBP; Iout(Max)(A): 0.041; Regulated Outputs(#): 2; SubFamily: 1 W & 2 W Miniature; Vin(Max)(V): 5.5; Vin(Min)(V): 4.5; Vout(Max)(V): 12.6; Vout(Min)(V): 11.4; DatasheetVersion: SBVS012E; PackageVersion: 4202489/B; PackageReference: NVA7; PackageDescription: 7-Pin Plastic In-Line, Body 6.61 x 19.18 mm; Supplier 1: Digi-Key; Supplier Part Number 1: DCP010512DBP-ND; Supplier 2: Newark; Supplier Part Number 2: 74K3720; Supplier 3: Mouser; Supplier Part Number 3: 595-DCP010512DBP; Eco-Plan: Pb-Free (RoHS); Mounting Technology: Through Hole; Code_JEDEC: MS-001-AA; ComponentLink1Description: Manufacturer URL; ComponentLink1URL: http://www.ti.com/; ComponentLink2Description: Datasheet; ComponentLink2URL: http://www.ti.com/general/docs/lit/getliterature.tsp?genericPartNumber=DCP010512DB&fileType=pdf; ComponentLink3Description: Package Specification; ComponentLink3URL: http://www.ti.com/lit/ml/mpdi058a/mpdi058a.pdf; ComponentLink4Description: URL Link1; ComponentLink4URL: Samples URL:http://www.ti.com/product/dcp010512db#samples
footprint TI-NVA7 (DIP, 7-Leads, Body 19.18x6.605mm, Pitch 2.54mm)
pins: 1 VS (power) "Voltage input", 2 0V (power) "Input side common", 5 0V (power) "Output side common", 6 +VOUT (power) "+Voltage out", 7 -VOUT (power) "-Voltage out", 8 SYNCOUT (out) "Unrectified transformer output", 14 SYNCIN (in) "Synchronization pin"

## DCP010512DBP-U
designator U?
Miniature, 1 W Isolated Unregulated DC-DC Converter, -40 to 100 degC, 7-pin SOP (DUA7), Pb-Free (RoHS); Manufacturer: Texas Instruments; PartNumber: DCP010512DBP-U; Iout(Max)(A): 0.041; Regulated Outputs(#): 2; SubFamily: 1 W & 2 W Miniature; Vin(Max)(V): 5.5; Vin(Min)(V): 4.5; Vout(Max)(V): 12.6; Vout(Min)(V): 11.4; DatasheetVersion: SBVS012E; PackageVersion: 4202490/B; PackageReference: DUA7; PackageDescription: 7-Pin Plastic Small Outline, Body 6.61 x 19.18 mm; Supplier 1: Digi-Key; Supplier Part Number 1: DCP010512DBP-U-ND; Supplier 2: Farnell; Supplier Part Number 2: 1461016; Supplier 3: Newark; Supplier Part Number 3: 61M5778; Supplier 4: Newark; Supplier Part Number 4: 35C1677; Supplier 5: Mouser; Supplier Part Number 5: 595-DCP010512DBP-U; Eco-Plan: Pb-Free (RoHS); Mounting Technology: Surface Mount; ComponentLink1Description: Manufacturer URL; ComponentLink1URL: http://www.ti.com/; ComponentLink2Description: Datasheet; ComponentLink2URL: http://www.ti.com/general/docs/lit/getliterature.tsp?genericPartNumber=DCP010512DB&fileType=pdf; ComponentLink3Description: Package Specification; ComponentLink3URL: http://www.ti.com/lit/ml/mpds097a/mpds097a.pdf; ComponentLink4Description: URL Link1; ComponentLink4URL: Samples URL:http://www.ti.com/product/dcp010512db#samples
footprint TI-DUA7_N (SOP, 7-Leads, Body 19.18x6.605mm, Pitch 2.54mm, IPC Medium Density)
footprint TI-DUA7_L (SOP, 7-Leads, Body 19.18x6.605mm, Pitch 2.54mm, IPC High Density)
footprint TI-DUA7_M (SOP, 7-Leads, Body 19.18x6.605mm, Pitch 2.54mm, IPC Low Density)
pins: 1 VS (power) "Voltage input", 2 0V (power) "Input side common", 5 0V (power) "Output side common", 6 +VOUT (power) "+Voltage out", 7 -VOUT (power) "-Voltage out", 8 SYNCOUT (out) "Unrectified transformer output", 14 SYNCIN (in) "Synchronization pin"

## DCP010512DBP-U/700
designator U?
Miniature, 1 W Isolated Unregulated DC-DC Converter, -40 to 100 degC, 7-pin SOP (DUA7), Pb-Free (RoHS); Manufacturer: Texas Instruments; PartNumber: DCP010512DBP-U/700; Iout(Max)(A): 0.041; Regulated Outputs(#): 2; SubFamily: 1 W & 2 W Miniature; Vin(Max)(V): 5.5; Vin(Min)(V): 4.5; Vout(Max)(V): 12.6; Vout(Min)(V): 11.4; DatasheetVersion: SBVS012E; PackageVersion: 4202490/B; PackageReference: DUA7; PackageDescription: 7-Pin Plastic Small Outline, Body 6.61 x 19.18 mm; Supplier 1: Digi-Key; Supplier Part Number 1: DCP010512DBPU/700-ND; Supplier 2: Newark; Supplier Part Number 2: 74C9325; Supplier 3: Mouser; Supplier Part Number 3: 595-DCP010512DBU/700; Eco-Plan: Pb-Free (RoHS); Mounting Technology: Surface Mount; ComponentLink1Description: Manufacturer URL; ComponentLink1URL: http://www.ti.com/; ComponentLink2Description: Datasheet; ComponentLink2URL: http://www.ti.com/general/docs/lit/getliterature.tsp?genericPartNumber=DCP010512DB&fileType=pdf; ComponentLink3Description: Package Specification; ComponentLink3URL: http://www.ti.com/lit/ml/mpds097a/mpds097a.pdf; ComponentLink4Description: URL Link1; ComponentLink4URL: Samples URL:http://www.ti.com/product/dcp010512db#samples
footprint TI-DUA7_N (SOP, 7-Leads, Body 19.18x6.605mm, Pitch 2.54mm, IPC Medium Density)
footprint TI-DUA7_L (SOP, 7-Leads, Body 19.18x6.605mm, Pitch 2.54mm, IPC High Density)
footprint TI-DUA7_M (SOP, 7-Leads, Body 19.18x6.605mm, Pitch 2.54mm, IPC Low Density)
pins: 1 VS (power) "Voltage input", 2 0V (power) "Input side common", 5 0V (power) "Output side common", 6 +VOUT (power) "+Voltage out", 7 -VOUT (power) "-Voltage out", 8 SYNCOUT (out) "Unrectified transformer output", 14 SYNCIN (in) "Synchronization pin"

## DCP010512DBPE4
designator U?
Miniature, 1 W Isolated Unregulated DC-DC Converter, -40 to 100 degC, 7-pin DIP (NVA7), Pb-Free (RoHS); Manufacturer: Texas Instruments; PartNumber: DCP010512DBPE4; Iout(Max)(A): 0.041; Regulated Outputs(#): 2; SubFamily: 1 W & 2 W Miniature; Vin(Max)(V): 5.5; Vin(Min)(V): 4.5; Vout(Max)(V): 12.6; Vout(Min)(V): 11.4; DatasheetVersion: SBVS012E; PackageVersion: 4202489/B; PackageReference: NVA7; PackageDescription: 7-Pin Plastic In-Line, Body 6.61 x 19.18 mm; Supplier 1: Digi-Key; Supplier Part Number 1: DCP010512DBPE4-ND; Supplier 2: Newark; Supplier Part Number 2: 73K7729; Supplier 3: Mouser; Supplier Part Number 3: 595-DCP010512DBPE4; Eco-Plan: Pb-Free (RoHS); Mounting Technology: Through Hole; Code_JEDEC: MS-001-AA; ComponentLink1Description: Manufacturer URL; ComponentLink1URL: http://www.ti.com/; ComponentLink2Description: Datasheet; ComponentLink2URL: http://www.ti.com/general/docs/lit/getliterature.tsp?genericPartNumber=DCP010512DB&fileType=pdf; ComponentLink3Description: Package Specification; ComponentLink3URL: http://www.ti.com/lit/ml/mpdi058a/mpdi058a.pdf; ComponentLink4Description: URL Link1; ComponentLink4URL: Samples URL:http://www.ti.com/product/tps55010#samples
footprint TI-NVA7 (DIP, 7-Leads, Body 19.18x6.605mm, Pitch 2.54mm)
pins: 1 VS (power) "Voltage input", 2 0V (power) "Input side common", 5 0V (power) "Output side common", 6 +VOUT (power) "+Voltage out", 7 -VOUT (power) "-Voltage out", 8 SYNCOUT (out) "Unrectified transformer output", 14 SYNCIN (in) "Synchronization pin"

## DCP010515BP
designator U?
Miniature, 1 W Isolated Unregulated DC-DC Converter, -40 to 100 degC, 7-pin DIP (NVA7), Pb-Free (RoHS); Manufacturer: Texas Instruments; PartNumber: DCP010515BP; Iout(Max)(A): 0.067; Regulated Outputs(#): 1; SubFamily: 1 W & 2 W Miniature; Vin(Max)(V): 5.5; Vin(Min)(V): 4.5; Vout(Max)(V): 15.75; Vout(Min)(V): 14.25; DatasheetVersion: SBVS012E; PackageVersion: 4202489/B; PackageReference: NVA7; PackageDescription: 7-Pin Plastic In-Line, Body 6.61 x 19.18 mm; Supplier 1: Digi-Key; Supplier Part Number 1: DCP010515BP-ND; Supplier 2: Newark; Supplier Part Number 2: 74K3722; Supplier 3: Mouser; Supplier Part Number 3: 595-DCP010515BP; Eco-Plan: Pb-Free (RoHS); Mounting Technology: Through Hole; Code_JEDEC: MS-001-AA; ComponentLink1Description: Manufacturer URL; ComponentLink1URL: http://www.ti.com/; ComponentLink2Description: Datasheet; ComponentLink2URL: http://www.ti.com/general/docs/lit/getliterature.tsp?genericPartNumber=DCP010515B&fileType=pdf; ComponentLink3Description: Package Specification; ComponentLink3URL: http://www.ti.com/lit/ml/mpdi058a/mpdi058a.pdf; ComponentLink4Description: URL Link1; ComponentLink4URL: Samples URL:http://www.ti.com/product/dcp010515b#samples
footprint TI-NVA7 (DIP, 7-Leads, Body 19.18x6.605mm, Pitch 2.54mm)
pins: 1 VS (power) "Voltage input", 2 0V (power) "Input side common", 5 0V (power) "Output side common", 6 +VOUT (power) "+Voltage Out", 7 NC "Not connected", 8 SYNCOUT (out) "Unrectified transformer output", 14 SYNCIN (in) "Synchronization pin"

## DCP010515BP-U
designator U?
Miniature, 1 W Isolated Unregulated DC-DC Converter, -40 to 100 degC, 7-pin SOP (DUA7), Pb-Free (RoHS); Manufacturer: Texas Instruments; PartNumber: DCP010515BP-U; Iout(Max)(A): 0.067; Regulated Outputs(#): 1; SubFamily: 1 W & 2 W Miniature; Vin(Max)(V): 5.5; Vin(Min)(V): 4.5; Vout(Max)(V): 15.75; Vout(Min)(V): 14.25; DatasheetVersion: SBVS012E; PackageVersion: 4202490/B; PackageReference: DUA7; PackageDescription: 7-Pin Plastic Small Outline, Body 6.61 x 19.18 mm; Supplier 1: Digi-Key; Supplier Part Number 1: DCP010515BP-U-ND; Supplier 2: Farnell; Supplier Part Number 2: 1461017; Supplier 3: Newark; Supplier Part Number 3: 61M5779; Supplier 4: Newark; Supplier Part Number 4: 74C9326; Supplier 5: Mouser; Supplier Part Number 5: 595-DCP010515BP-U; Eco-Plan: Pb-Free (RoHS); Mounting Technology: Surface Mount; ComponentLink1Description: Manufacturer URL; ComponentLink1URL: http://www.ti.com/; ComponentLink2Description: Datasheet; ComponentLink2URL: http://www.ti.com/general/docs/lit/getliterature.tsp?genericPartNumber=DCP010515B&fileType=pdf; ComponentLink3Description: Package Specification; ComponentLink3URL: http://www.ti.com/lit/ml/mpds097a/mpds097a.pdf; ComponentLink4Description: URL Link1; ComponentLink4URL: Samples URL:http://www.ti.com/product/dcp010515b#samples
footprint TI-DUA7_N (SOP, 7-Leads, Body 19.18x6.605mm, Pitch 2.54mm, IPC Medium Density)
footprint TI-DUA7_L (SOP, 7-Leads, Body 19.18x6.605mm, Pitch 2.54mm, IPC High Density)
footprint TI-DUA7_M (SOP, 7-Leads, Body 19.18x6.605mm, Pitch 2.54mm, IPC Low Density)
pins: 1 VS (power) "Voltage input", 2 0V (power) "Input side common", 5 0V (power) "Output side common", 6 +VOUT (power) "+Voltage Out", 7 NC "Not connected", 8 SYNCOUT (out) "Unrectified transformer output", 14 SYNCIN (in) "Synchronization pin"

## DCP010515BP-U/700
designator U?
Miniature, 1 W Isolated Unregulated DC-DC Converter, -40 to 100 degC, 7-pin SOP (DUA7), Pb-Free (RoHS); Manufacturer: Texas Instruments; PartNumber: DCP010515BP-U/700; Iout(Max)(A): 0.067; Regulated Outputs(#): 1; SubFamily: 1 W & 2 W Miniature; Vin(Max)(V): 5.5; Vin(Min)(V): 4.5; Vout(Max)(V): 15.75; Vout(Min)(V): 14.25; DatasheetVersion: SBVS012E; PackageVersion: 4202490/B; PackageReference: DUA7; PackageDescription: 7-Pin Plastic Small Outline, Body 6.61 x 19.18 mm; Supplier 1: Digi-Key; Supplier Part Number 1: DCP010515BP-U/700-ND; Supplier 2: Newark; Supplier Part Number 2: 74C9327; Supplier 3: Mouser; Supplier Part Number 3: 595-DCP010515BPU/700; Eco-Plan: Pb-Free (RoHS); Mounting Technology: Surface Mount; ComponentLink1Description: Manufacturer URL; ComponentLink1URL: http://www.ti.com/; ComponentLink2Description: Datasheet; ComponentLink2URL: http://www.ti.com/general/docs/lit/getliterature.tsp?genericPartNumber=DCP010515B&fileType=pdf; ComponentLink3Description: Package Specification; ComponentLink3URL: http://www.ti.com/lit/ml/mpds097a/mpds097a.pdf; ComponentLink4Description: URL Link1; ComponentLink4URL: Samples URL:http://www.ti.com/product/tps55010#samples
footprint TI-DUA7_N (SOP, 7-Leads, Body 19.18x6.605mm, Pitch 2.54mm, IPC Medium Density)
footprint TI-DUA7_L (SOP, 7-Leads, Body 19.18x6.605mm, Pitch 2.54mm, IPC High Density)
footprint TI-DUA7_M (SOP, 7-Leads, Body 19.18x6.605mm, Pitch 2.54mm, IPC Low Density)
pins: 1 VS (power) "Voltage input", 2 0V (power) "Input side common", 5 0V (power) "Output side common", 6 +VOUT (power) "+Voltage Out", 7 NC "Not connected", 8 SYNCOUT (out) "Unrectified transformer output", 14 SYNCIN (in) "Synchronization pin"

## DCP010515DBP
designator U?
Miniature, 1 W Isolated Unregulated DC-DC Converter, -40 to 100 degC, 7-pin DIP (NVA7), Pb-Free (RoHS); Manufacturer: Texas Instruments; PartNumber: DCP010515DBP; Iout(Max)(A): 0.033; Regulated Outputs(#): 2; SubFamily: 1 W & 2 W Miniature; Vin(Max)(V): 5.5; Vin(Min)(V): 4.5; Vout(Max)(V): 15.75; Vout(Min)(V): 14.25; DatasheetVersion: SBVS012E; PackageVersion: 4202489/B; PackageReference: NVA7; PackageDescription: 7-Pin Plastic In-Line, Body 6.61 x 19.18 mm; Supplier 1: Digi-Key; Supplier Part Number 1: DCP010515DBP-ND; Supplier 2: Farnell; Supplier Part Number 2: 1417412; Supplier 3: Newark; Supplier Part Number 3: 74K3723; Supplier 4: Mouser; Supplier Part Number 4: 595-DCP010515DBP; Eco-Plan: Pb-Free (RoHS); Mounting Technology: Through Hole; Code_JEDEC: MS-001-AA; ComponentLink1Description: Manufacturer URL; ComponentLink1URL: http://www.ti.com/; ComponentLink2Description: Datasheet; ComponentLink2URL: http://www.ti.com/general/docs/lit/getliterature.tsp?genericPartNumber=DCP010515DB&fileType=pdf; ComponentLink3Description: Package Specification; ComponentLink3URL: http://www.ti.com/lit/ml/mpdi058a/mpdi058a.pdf; ComponentLink4Description: URL Link1; ComponentLink4URL: Samples URL:http://www.ti.com/product/dcp010515db#samples
footprint TI-NVA7 (DIP, 7-Leads, Body 19.18x6.605mm, Pitch 2.54mm)
pins: 1 VS (power) "Voltage input", 2 0V (power) "Input side common", 5 0V (power) "Output side common", 6 +VOUT (power) "+Voltage out", 7 -VOUT (power) "-Voltage out", 8 SYNCOUT (out) "Unrectified transformer output", 14 SYNCIN (in) "Synchronization pin"